# Altium integrated library SensorNode.IntLib: 42 symbols
Pins are listed as number, name and electrical type; pins without a type are passive.

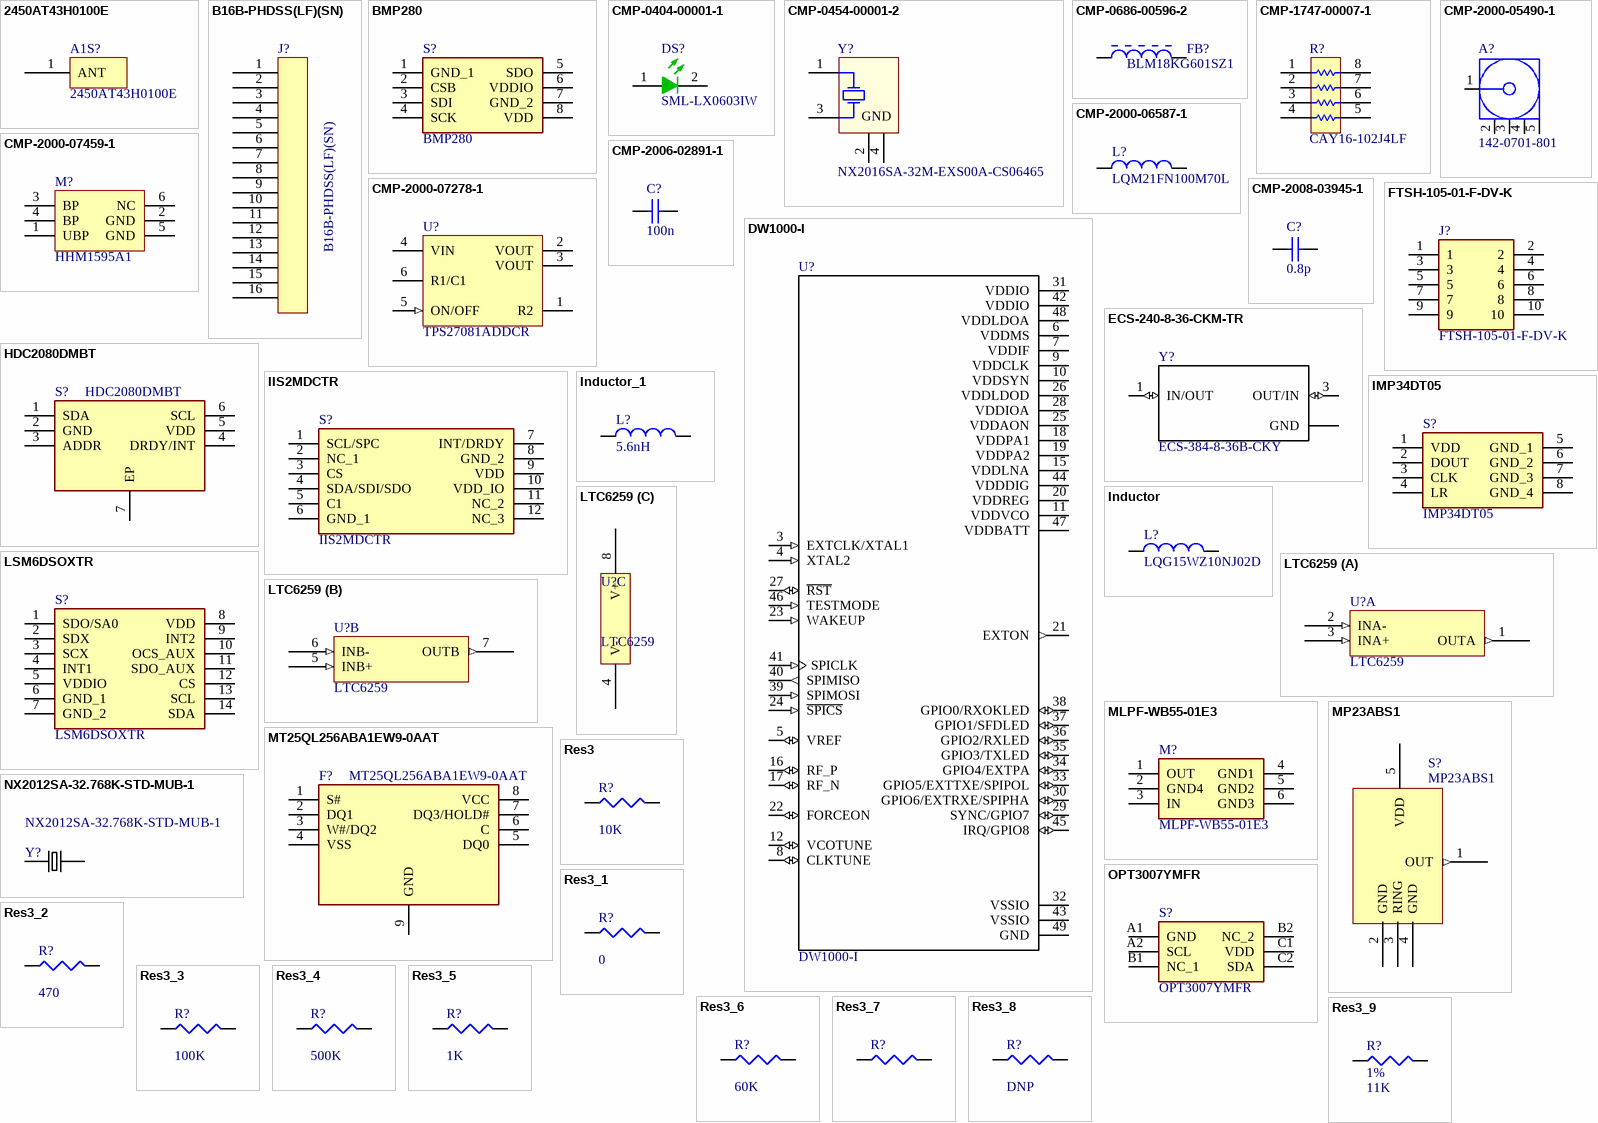
[diagram p0: symbols 2450AT43H0100E to Res3_9]

## 2450AT43H0100E
designator A1S?
footprint 2450AT43H0100E (Antennas 2400-2500 MHz)
pins: 1 ANT

## B16B-PHDSS(LF)(SN)
designator J?
footprint B16B-PHDSS(LF)(SN) - duplicate
pins: 1, 2, 3, 4, 5, 6, 7, 8, 9, 10, 11, 12, 13, 14, 15, 16

## BMP280
designator S?
Integrated Circuit; Manufacturer_Name: Bosch; Datasheet Link: https://ae-bst.resource.bosch.com/media/_tech/media/datasheets/BST-BMP280-DS001-19.pdf; Manufacturer_Part_Number: BMP280; Mouser Part Number: 262-BMP280
footprint 8-PIN-METAL-LID-LGA_1
pins: 1 GND_1, 2 CSB, 3 SDI, 4 SCK, 5 SDO, 6 VDDIO, 7 GND_2, 8 VDD

## CMP-0404-00001-1
designator DS?, comment SML-LX0603IW
LED, SMT, 0603(1608), 1.1mm thickness, Green; Manufacturer: Kingbright; PartNumber: KP-1608MGC; Reverse Voltage: 5 V; Power Dissipation: 75 mW; Forward Current: 30 mA; Packing Type: 2000 pcs / reel; Mounting Technology: Surface Mount; Storage Temperature: -40 to +85 degC; ComponentLink1URL: http://www.kingbright.com/; PackageDescription: 2-Pin SMT LED, 1.6 x 0.8 mm Pitch; PackageReference: 0603LED_GREEN; ComponentLink1Description: Manufacturer URL; Manufacturer 1: Kingbright; Manufacturer Part Number 1: KP-1608MGC
footprint KING-0603LED_GREEN_V (SMT LED, 2-Leads, Body 1.6x0.8mm (0603-Size))
pins: 1 A, 2 K

## CMP-0454-00001-2
designator Y?, comment NX2016SA-32M-EXS00A-CS06465
Crystal, 26 MHz, 8 pF, for OA / AV / Short-range Wireless, -10 to 75 degC, 2.0 x 1.6 x 0.45 mm SMD; PartNumber: NX2016SA-26MHZ-EXS00A-CS06025; Manufacturer: NDK; Level of drive: 10 uW (Max. 200 uW); Overtone Order: Fundamental; Load Capacitance: 8 pF; Nominal Frequency: 26 MHz; Operating Temperature: -10 to 75 degC; ComponentLink1Description: Manufacturer URL; ComponentLink3Description: Package Specification; ComponentLink3URL: http://www.ndk.com/images/products/catalog/c_NX2016SA-STD-CZS-1_e.pdf; PackageDescription: 4-Pin Hand Drawn, Body 2x1.6mm; Storage temperature range: -40 to 85 degC; ComponentLink1URL: https://www.ndk.com; Mounting Technology: Surface Mount; PackageReference: NX2016SA-26MHZ-EXS00A-CS06025-4; ComponentLink2Description: Datasheet; ComponentLink2URL: http://www.ndk.com/images/products/catalog/c_NX2016SA-STD-CZS-1_e.pdf; Manufacturer 1: NDK; Manufacturer Part Number 1: NX2016SA-26MHZ-EXS00A-CS06025
footprint NDK-NX2016SA-26MHZ-EXS00A-CS06025-4_V (Hand Drawn, 4-Leads, Body 2x1.6mm)
pins: 1 X1, 2 GND (power), 3 X2, 4 GND (power)

## CMP-0686-00596-2
designator FB?, comment BLM18KG601SZ1
Chip Ferrite Bead for Power Lines (Low DC Resistance Type), 220 Ohm, 2500 mA, -55 to 125 degC, 1.6 x 0.8 x 0.65 mm SMD, Tape and Reel; Manufacturer: Murata; PartNumber: BLM18SG221TN1D; Impedance (at 100 MHz): 220 Ohm +/- 25%; DC Resistance: 0.040 Ohm Max.; Rated Current: 2500 mA; ComponentLink2Description: Datasheet; ComponentLink1Description: Manufacturer URL; ComponentLink3Description: Package Specification; DatasheetVersion: 08/2013; Packing: Tape and Reel; PackageReference: BLM18_H650-2; PackageDescription: 2-Pin Chip, Body 1.6 x 0.8 mm; Mounting Technology: Surface Mount; Operating Temperature Range: -55 to 125 degC; ComponentLink1URL: http://www.murata.com/; ComponentLink2URL: http://www.murata.com/products/catalog/pdf/c31e.pdf; ComponentLink3URL: http://www.murata.com/products/catalog/pdf/c31e.pdf; Manufacturer 1: Murata; Manufacturer Part Number 1: BLM18SG221TN1D
footprint MURA-BLM18SG-B25-CHIP-2_V1 (Chip Ferrite Bead, 2-Leads, Body 1.6x0.8mm, Height 0.65mm, Flow, 18um Land Pad Thickness, 1.7 to 2.5A Rated Current)
footprint MURA-BLM18SG-B25-CHIP-2_V3 (Chip Ferrite Bead, 2-Leads, Body 1.6x0.8mm, Height 0.65mm, Reflow, 18um Land Pad Thickness, 1.7 to 2.5A Rated Current)
footprint MURA-BLM18SG-B25-CHIP-2_V4 (Chip Ferrite Bead, 2-Leads, Body 1.6x0.8mm, Height 0.65mm, Reflow, 35/70um Land Pad Thickness, 1.7 to 2.5A Rated Current)
footprint MURA-BLM18SG-B25-CHIP-2_V2 (Chip Ferrite Bead, 2-Leads, Body 1.6x0.8mm, Height 0.65mm, Flow, 35/70um Land Pad Thickness, 1.7 to 2.5A Rated Current)
pins: 1, 2

## CMP-1747-00007-1
designator R?, comment CAY16-102J4LF
Chip Resistor Array, 1 KOhm, +/- 5%, 62.5 mW, -55 to 125 degC, 8-Pin SMD, RoHS, Tape and Reel; Manufacturer 1: Bourns; Power Rating: 100 mW; Tolerance: 1%; Voltage Rating (DC): 50 V; Resistance: 330 Ohm; Case\Package: 0603; RoHSCompliant: true; Case Code (Metric): 1608; Pins: 2; PackageDescription: 8-Pin Surface Mount Device, Body 1.6 x 3.2 mm, Pitch 0.8 mm; Height: 0.45 mm; Min Operating Temperature: -55 degC; ComponentLink1URL: http://www.bourns.com/; Case Code (Imperial): 0603; Packaging: Tape and Reel; PackageReference: CAY16-J4; ComponentLink1Description: Manufacturer URL; ComponentLink2Description: Datasheet; Length: 1.6 mm; Width: 0.8 mm; Max Operating Temperature: 155 degC; Mount: Surface Mount; DatasheetVersion: Sep-14; Voltage Rating: 50 V; REACH SVHC: No SVHC; ComponentLink2URL: http://www.bourns.com/pdfs/CATCAY.pdf; Package Quantity: 5000; Manufacturer Part Number 1: CAY16-102J4LF
footprint BOUR-CAY16-J4_V (SMD, 8-Leads, Body 1.6x3.2mm, Pitch 0.8mm)
pins: 1, 2, 3, 4, 5, 6, 7, 8

## CMP-2000-05490-1
designator A?, comment 142-0701-801
SMA End Launch Jack Receptacle, 50 Ohm, 0 to 18 GHz, -65 to 165 degC, 5-Pin SMD, RoHS, Bulk; Manufacturer: EmersonConnectivitySolutions; Manufacturer 1: Emerson; Connector Type: JackPCB; Gender: Jack(Female); Impedance: 50Ohms; Brand: Johnson/EmersonConnectivitySolutions; Body Material: Brass; Body Style: Straight; Maximum Frequency: 18GHz; Factory Pack Quantity: 5; Datasheet URL: https://belfuse.com/resources/Johnson/productinformation/pi-142-0701-801.pdf; Datasheet Version: 12/2014; Operating Temperature Range: -65Cto+165C; Mounting Technology: SurfaceMount; RF Series: SMA; Package Reference: 142-0701-801; Product Category: RFConnectors/CoaxialConnectors; Termination Style: Solder; RoHS: Details; Package URL: https://belfuse.com/resources/Johnson/drawings/dr-1420701801.pdf; Series: SMA; Package Description: 5-Pin Surface Mount Device, Body 14.275 x 9.525 mm; Manufacturer URL: http://www.cinch.com/; Contact Plating: Gold; Product: Connectors; Orientation: Straight; Manufacturer Part Number 1: 142-0701-801
footprint CINC-142-0701-801_V (SMA Connector, 5-Leads, Body 14.275x9.525mm)
pins: 1, 2, 3, 4, 5

## CMP-2000-06587-1
designator L?, comment LQM21FN100M70L
Fixed Inductor, 10 uH, +/-20%, -55 to 125 degC, 2-Pin SMD (0805), RoHS, Tape and Reel; Manufacturer: Murata; Tolerance (%): 20%; DC Resistance: 0.6; Inductance-Nom: 10H; Rated Current-Max: 100mA; Package Reference: IND0805; Case Size/Dimension: 0805; Manufacturer URL: http://www.murata.com/; Package Description: 2-Pin Surface Mount Device, Body 2 x 1.25 mm; Datasheet URL: http://psearch.en.murata.com/inductor/product/LQM21FN100M70%23.pdf; Mounting Technology: SurfaceMount; Datasheet Version: 05/2016; Manufacturer 1: Murata; Manufacturer Part Number 1: LQM21FN100M70L
footprint MURA-IND0805_L (Chip Inductor, 2-Leads, Body 2.2x1.45mm, IPC High Density)
footprint MURA-IND0805_M (Chip Inductor, 2-Leads, Body 2.2x1.45mm, IPC Low Density)
footprint MURA-IND0805_N (Chip Inductor, 2-Leads, Body 2.2x1.45mm, IPC Medium Density)
pins: 1, 2

## CMP-2000-07278-1
designator U?, comment TPS27081ADDCR
PFET High-Side Load Switch with Level Shift and Adjustable Slew Rate Control, 1 to 8 V, 3 A, -40 to 85 degC, 6-Pin SOT (DDC), Green (RoHS & no Sb/Br), Tape and Reel; Manufacturer Product Page: TPS27081ADDCRSpecifications; Manufacturer: Texas Instruments; VIN Max: 8V; Power Dissipation Max: 1190mW; Interface: On/Off; Voltage - Load: 1.2V~8V; Rds On (Typ): 32mOhm; Voltage - Supply (Vcc/Vdd): NotRequired; EDA / CAD Models: DownloadfromAcceleratedDesigns; Ratio - Input: Output:1:1; Online Catalog: GeneralPurpose; VIN Min: 1V; Number of Outputs: 1; Output Configuration: HighSide; Package Version: 4204403-3/E, 06/2005; Current - Output (Max): 3A; Other Names: 296-34970-6; Manufacturer URL: http://www.ti.com/; Category: IntegratedCircuits(ICs); Standard Package: 1; Features: SlewRateControlled; Operating Temperature: -40°C~85°C(TA); Datasheet Version: Rev. E, 06/2015; PartNumber: TPS27081A; Package Reference: DDC6; Mounting Technology: SurfaceMount; Package URL: http://www.ti.com/litv/pdf/mpds124d; Package / Case: SOT-23-6Thin,TSOT-23-6; Family: PMIC-PowerDistributionSwitches,LoadDrivers; Supplier Device Package: 6-SOT; Datasheet URL: http://www.ti.com/lit/ds/symlink/tps27081a.pdf; Packaging: Digi-Reel®; Switch Type: GeneralPurpose; Package Description: 6-Pin Small Outline Transistor, Body 2.9 x 1.6 mm, Pitch 0.95 mm; Manufacturer 1: Texas Instruments; Manufacturer Part Number 1: TPS27081ADDCR
footprint DDC0006A_L (SOT23, 6-Leads, Body 3.05x1.75mm, Pitch 0.95mm, IPC High Density)
footprint DDC0006A_M (SOT23, 6-Leads, Body 3.05x1.75mm, Pitch 0.95mm, IPC Low Density)
footprint DDC0006A_N (SOT23, 6-Leads, Body 3.05x1.75mm, Pitch 0.95mm, IPC Medium Density)
pins: 1 R2 "Source Terminal of NMOS (Q2) - Connect to system GND directly or through a slew rate control resistor", 2 VOUT (power) "Drain Terminal of Power PFET (Q1) - Connect a slew control capacitor between pins VOUT and R1/C1", 3 VOUT (power) "Drain Terminal of Power PFET (Q1) - Connect a slew control capacitor between pins VOUT and R1/C1", 4 VIN (power) "Source Terminal of Power PFET (Q1) - connect a pull-up resistor between the pins VIN/R1 and R1/C1", 5 ON/OFF (in) "Active high enable pin - when driven with a high impedance driver connect an external pull down resistor to GND", 6 R1/C1 "Gate Terminal of Power PFET (Q1)"

## CMP-2000-07459-1
designator M?, comment HHM1595A1
Multilayer Balun, 3000 to 8000 MHz, -40 to 85 degC, 6-Pin SMD, RoHS, Tape and Reel; Manufacturer: TDK; Case\/Package: 0805; Impedance: 100Ohm; Insertion Loss: 1.5dB; Radiation Hardening: No; Number of Pins: 6; Manufacturer URL: http://www.tdk.com/; Min Operating Temperature: -40degC; Mounting Technology: SurfaceMount; RoHSCompliant: true; Package Description: 6-Pin Surface Mount Device, Body 2 x 1.25 mm, Pitch 0.65 mm; Datasheet URL: https://product.tdk.com/info/en/documents/data_sheet/rf_balun_hhm1595a1_en.pdf; Package Quantity: 1; Max Operating Temperature: 85degC; Packaging: TapeandReel; Package Reference: HHM1595A1; Termination: SMD/SMT; Datasheet Version: 04/2015; Case Code (Imperial): 0805; Case Code (Metric): 2012; Manufacturer 1: TDK; Manufacturer Part Number 1: HHM1595A1
footprint TDK-HHM1595A1_V (SMD, 6-Leads, Body 2x1.25mm, Pitch 0.65mm)
pins: 1 UBP "Unbalanced port", 2 GND (power), 3 BP "Balanced port", 4 BP "Balanced port", 5 GND (power), 6 NC "N.C."

## CMP-2006-02891-1
designator C?, comment 100n
Part Number: GRM188R71H102KA01D; Manufacturer: Murata; Manufacturer 1: Murata; Manufacturer Part Number 1: GRM188R71H102KA01D
footprint CAPC1608X90X35NL10T15 (Chip Capacitor, 2-Leads, Body 1.60x0.80mm, IPC Medium Density)
footprint CAPC1608X90X35ML10T15 (Chip Capacitor, 2-Leads, Body 1.60x0.80mm, IPC Low Density)
footprint CAPC1608X90X35LL10T15 (Chip Capacitor, 2-Leads, Body 1.60x0.80mm, IPC High Density)
pins: 1, 2
1 alternate drawing of the same symbol

## CMP-2008-03945-1
designator C?, comment 0.8p
Part Number: GRM1555C1H120GA01D; Manufacturer: Murata; Manufacturer 1: Murata; Manufacturer Part Number 1: GRM1555C1H120GA01D
footprint CAPC1005X55X25ML05T10 (Chip Capacitor, 2-Leads, Body 1.00x0.50mm, IPC Low Density)
footprint CAPC1005X55X25NL05T10 (Chip Capacitor, 2-Leads, Body 1.00x0.50mm, IPC Medium Density)
footprint CAPC1005X55X25LL05T10 (Chip Capacitor, 2-Leads, Body 1.00x0.50mm, IPC High Density)
pins: 1, 2
1 alternate drawing of the same symbol

## DW1000-I
designator U?
Ic Rf Txrx 802.15.4 48-Qfn; MF: Decawave Limited; Price: None; Package: QFN-48 Decawave; Availability: Unavailable; MP: DW1000-I; SnapEDA_Link: https://www.snapeda.com/parts/DW1000-I/Decawave%20Limited/view-part/?ref=snap; Value: *
footprint *QFN40P600X600X90-49N
pins: 3 EXTCLK/XTAL1 (in), 4 XTAL2 (in), 5 VREF (io), 6 VDDMS (power), 7 VDDIF (power), 8 CLKTUNE (io), 9 VDDCLK (power), 10 VDDSYN (power), 11 VDDVCO (power), 12 VCOTUNE (io), 15 VDDLNA (power), 16 RF_P (io), 17 RF_N (io), 18 VDDPA1 (power), 19 VDDPA2 (power), 20 VDDREG (power), 21 EXTON (out), 22 FORCEON (io), 23 WAKEUP (in), 24 ~{SPICS} (in), 25 VDDAON (power), 26 VDDLDOD (power), 27 ~{RST} (io), 28 VDDIOA (power), 29 SYNC/GPIO7 (io), 30 GPIO6/EXTRXE/SPIPHA (io), 31 VDDIO (power), 32 VSSIO (power), 33 GPIO5/EXTTXE/SPIPOL (io), 34 GPIO4/EXTPA (io), 35 GPIO3/TXLED (io), 36 GPIO2/RXLED (io), 37 GPIO1/SFDLED (io), 38 GPIO0/RXOKLED (io), 39 SPIMOSI (in), 40 SPIMISO (out), 41 SPICLK (in), 42 VDDIO (power), 43 VSSIO (power), 44 VDDDIG (power), 45 IRQ/GPIO8 (io), 46 TESTMODE (in), 47 VDDBATT (power), 48 VDDLDOA (power), 49 GND (power)

## ECS-240-8-36-CKM-TR
designator Y?, comment ECS-384-8-36B-CKY
The miniature ECX-2236 is a very compact SMD Crystal. The 2.5 x 2.0 x 0.55 mm ceramic package is ideal for today's SMD manufacturing environment.; MF: ECS Inc.; MP: ECS-240-8-36-CKM-TR; Price: None; SnapEDA_Link: https://www.snapeda.com/parts/ECS-240-8-36-CKM-TR/ECS%20Inc./view-part/?ref=snap; Package: SMD-4 ECS Inc.; Availability: Unavailable; Value: *
footprint *XTAL_ECS-240-8-36-CKM-TR
pins: 1 IN/OUT (io), 2 GND (power), 3 OUT/IN (io), 4 GND (power)

## FTSH-105-01-F-DV-K
designator J?
Connector; Manufacturer_Name: SAMTEC; Datasheet Link: http://suddendocs.samtec.com/prints/ftsh-1xx-xx-xxx-dv-xxx-xxx-mkt.pdf; Manufacturer_Part_Number: FTSH-105-01-F-DV-K; Mouser Part Number: 200-FTSH10501FDVK; Mouser Price/Stock: https://www.mouser.com/Search/Refine.aspx?Keyword=200-FTSH10501FDVK; RS Part Number: 1592372; RS Price/Stock: http://uk.rs-online.com/web/p/products/1592372
footprint SAMTEC_FTSH-105-01-L-DV (Footprint not found)
pins: 1, 2, 3, 4, 5, 6, 7, 8, 9, 10

## HDC2080DMBT
designator S?
Undefined or Miscellaneous; Manufacturer_Name: Texas Instruments; Datasheet Link: http://www.ti.com/lit/gpn/hdc2080; Height: 0.8mm; Manufacturer_Part_Number: HDC2080DMBT; Mouser Part Number: 595-HDC2080DMBT; Mouser Price/Stock: https://www.mouser.com/Search/Refine.aspx?Keyword=595-HDC2080DMBT; RS Part Number: 1797065P; RS Price/Stock: http://uk.rs-online.com/web/p/products/1797065P
footprint SON100P300X300X80-7N-D
pins: 1 SDA, 2 GND, 3 ADDR, 4 DRDY/INT, 5 VDD, 6 SCL, 7 EP

## IIS2MDCTR
designator S?
Integrated Circuit; Manufacturer_Name: STMicroelectronics; Datasheet Link: https://www.st.com/resource/en/datasheet/iis2mdc.pdf; Height: 0.7mm; Manufacturer_Part_Number: IIS2MDCTR; Mouser Part Number: 511-IIS2MDCTR; Mouser Price/Stock: https://www.mouser.com/Search/Refine.aspx?Keyword=511-IIS2MDCTR
footprint IIS2MDCTR
pins: 1 SCL/SPC, 2 NC_1, 3 CS, 4 SDA/SDI/SDO, 5 C1, 6 GND_1, 7 INT/DRDY, 8 GND_2, 9 VDD, 10 VDD_IO, 11 NC_2, 12 NC_3

## IMP34DT05
designator S?
Integrated Circuit; Manufacturer_Name: STMicroelectronics; Datasheet Link: https://www.st.com/resource/en/datasheet/imp34dt05.pdf; Height: 1.1mm; Manufacturer_Part_Number: IMP34DT05; Mouser Part Number: N/A; Mouser Price/Stock: https://www.mouser.com/Search/Refine.aspx?Keyword=N%2FA
footprint IMP34DT05
pins: 1 VDD, 2 DOUT, 3 CLK, 4 LR, 5 GND_1, 6 GND_2, 7 GND_3, 8 GND_4

## Inductor
designator L?, comment LQG15WZ10NJ02D
Inductor; Code_IEC: 1005; Published: 8-Jun-2000; LatestRevisionDate: 29-May-2009; LatestRevisionNote: IPC-7351 Footprint Added.; PackageReference: 0402-A; Publisher: Altium Limited; PackageDescription: Chip Inductor; Code_JEITA: 0402
footprint 0402-A (Chip Inductor, Body 1.0x0.5mm, IPC High Density)
footprint INDC1608L (Chip Inductor, Body 1.6x0.8mm, IPC High Density)
footprint 2029 (Chip Inductor, Body 2.0x1.2mm, IPC High Density)
footprint 0603 (Chip Inductor, Body 0.6x0.3mm, IPC High Density)
footprint INDC3216 (Chip Inductor, Body 3.2x1.6mm, IPC High Density)
footprint INDC4532 (Chip Inductor, Body 4.5x3.2mm, IPC High Density)
simulation model INDUCTOR (Inductor)
signal-integrity model Inductor
pins: 1, 2

## Inductor_1
designator L?, comment 5.6nH
Inductor; Code_IEC: 1005; Published: 8-Jun-2000; LatestRevisionDate: 29-May-2009; LatestRevisionNote: IPC-7351 Footprint Added.; PackageReference: 0402-A; Publisher: Altium Limited; PackageDescription: Chip Inductor; Code_JEITA: 0402
footprint 0402-A (Chip Inductor, Body 1.0x0.5mm, IPC High Density)
footprint INDC1608L (Chip Inductor, Body 1.6x0.8mm, IPC High Density)
footprint 2029 (Chip Inductor, Body 2.0x1.2mm, IPC High Density)
footprint 0603 (Chip Inductor, Body 0.6x0.3mm, IPC High Density)
footprint INDC3216 (Chip Inductor, Body 3.2x1.6mm, IPC High Density)
footprint INDC4532 (Chip Inductor, Body 4.5x3.2mm, IPC High Density)
simulation model INDUCTOR (Inductor)
signal-integrity model Inductor
pins: 1, 2

## LSM6DSOXTR
designator S?
Accelerometer; Manufacturer_Name: STMicroelectronics; Datasheet Link: https://www.st.com/resource/en/datasheet/lsm6dsox.pdf; Manufacturer_Part_Number: LSM6DSOXTR; Mouser Part Number: 511-LSM6DSOXTR; Mouser Price/Stock: https://www.mouser.com/Search/Refine.aspx?Keyword=511-LSM6DSOXTR
footprint LGA-14_1
pins: 1 SDO/SA0, 2 SDX, 3 SCX, 4 INT1, 5 VDDIO, 6 GND_1, 7 GND_2, 8 VDD, 9 INT2, 10 OCS_AUX, 11 SDO_AUX, 12 CS, 13 SCL, 14 SDA

## LTC6259
designator U?
footprint SOT23-8
part A pins: 1 OUTA (out), 2 INA- (in), 3 INA+ (in)
part B pins: 5 INB+ (in), 6 INB- (in), 7 OUTB (out)
part C pins: 4 V- (power), 8 V+ (power)

## MLPF-WB55-01E3
designator M?
Filter; Manufacturer_Name: STMicroelectronics; Datasheet Link: https://componentsearchengine.com/Datasheets/1/MLPF-WB55-01E3.pdf; Height: 0.7mm; Mouser Part Number: 511-MLPF-WB55-01E3; Mouser Price/Stock: https://www.mouser.com/Search/Refine.aspx?Keyword=511-MLPF-WB55-01E3; Manufacturer_Part_Number: MLPF-WB55-01E3
footprint MLPFWB5501E3
pins: 1 OUT, 2 GND4, 3 IN, 4 GND1, 5 GND2, 6 GND3

## MP23ABS1
designator S?
footprint MP23ABS1
pins: 1 OUT (out), 2 GND (power), 3 RING (power), 4 GND (power), 5 VDD (power)

## MT25QL256ABA1EW9-0AAT
designator F?
Integrated Circuit; Manufacturer_Name: Micron; Datasheet Link: https://www.micron.com/~/media/documents/products/data-sheet/nor-flash/serial-nor/mt25q/die-rev-a/mt25q_qljs_l_256_aba_0.pdf; Height: 0.8mm; Manufacturer_Part_Number: MT25QL256ABA1EW9-0AAT; Mouser Part Number: 340-322381-TRAY; Mouser Price/Stock: https://www.mouser.com/Search/Refine.aspx?Keyword=340-322381-TRAY
footprint SON127P800X600X80-9N-D
pins: 1 S#, 2 DQ1, 3 W#/DQ2, 4 VSS, 5 DQ0, 6 C, 7 DQ3/HOLD#, 8 VCC, 9 GND

## NX2012SA-32.768K-STD-MUB-1
designator Y?
Crystal 32.7680khz 12.5pf Smd; MF: NDK America,; MP: NX2012SA-32.768K-STD-MUB-1; Price: None; Package: SMD-2 NDK; Availability: Unavailable; SnapEDA_Link: https://www.snapeda.com/parts/NX2012SA-32.768K-STD-MUB-1/NDK%20America%2C%20Inc./view-part/?ref=snap; Value: *
footprint *XTAL_NX2012SA-32.768K-STD-MUB-1
pins: 1, 2

## OPT3007YMFR
designator S?
Integrated Circuit; Manufacturer_Name: Texas Instruments; Datasheet Link: http://www.ti.com/lit/gpn/opt3007; Height: 0.226mm; Manufacturer_Part_Number: OPT3007YMFR; Mouser Part Number: 595-OPT3007YMFR; Mouser Price/Stock: https://www.mouser.com/Search/Refine.aspx?Keyword=595-OPT3007YMFR
footprint BGA6C35P2X3_86X95X23
pins: A1 GND, A2 SCL, B1 NC_1, B2 NC_2, C1 VDD, C2 SDA

## Res3
designator R?  value 10K
Resistor; Published: 8-Jun-2000; LatestRevisionDate: 29-May-2009; LatestRevisionNote: IPC-7351 Footprint Added.; PackageReference: J1-0603; Publisher: Altium Limited; PackageDescription: Chip Resistor
footprint J1-0603 (Chip Resistor, Body 1.6x0.8mm, IPC High Density)
footprint 14-1210 (Chip Resistor, Body 3.2x2.5mm, IPC High Density)
footprint 12Z-2010 (Chip Resistor, Body 5.0x2.5mm, IPC High Density)
footprint RESC6332 (Chip Resistor, Body 6.3x3.2mm, IPC High Density)
simulation model RESISTOR (Resistor)
signal-integrity model Res
pins: 1, 2

## Res3_1
designator R?  value 0
Resistor; Published: 8-Jun-2000; LatestRevisionDate: 29-May-2009; LatestRevisionNote: IPC-7351 Footprint Added.; PackageReference: J1-0603; Publisher: Altium Limited; PackageDescription: Chip Resistor
footprint J1-0603 (Chip Resistor, Body 1.6x0.8mm, IPC High Density)
footprint 14-1210 (Chip Resistor, Body 3.2x2.5mm, IPC High Density)
footprint 12Z-2010 (Chip Resistor, Body 5.0x2.5mm, IPC High Density)
footprint RESC6332 (Chip Resistor, Body 6.3x3.2mm, IPC High Density)
simulation model RESISTOR (Resistor)
signal-integrity model Res
pins: 1, 2

## Res3_2
designator R?  value 470
Resistor; Published: 8-Jun-2000; LatestRevisionDate: 29-May-2009; LatestRevisionNote: IPC-7351 Footprint Added.; PackageReference: J1-0603; Publisher: Altium Limited; PackageDescription: Chip Resistor
footprint J1-0603 (Chip Resistor, Body 1.6x0.8mm, IPC High Density)
footprint 14-1210 (Chip Resistor, Body 3.2x2.5mm, IPC High Density)
footprint 12Z-2010 (Chip Resistor, Body 5.0x2.5mm, IPC High Density)
footprint RESC6332 (Chip Resistor, Body 6.3x3.2mm, IPC High Density)
simulation model RESISTOR (Resistor)
signal-integrity model Res
pins: 1, 2

## Res3_3
designator R?  value 100K
Resistor; Published: 8-Jun-2000; LatestRevisionDate: 29-May-2009; LatestRevisionNote: IPC-7351 Footprint Added.; PackageReference: J1-0603; Publisher: Altium Limited; PackageDescription: Chip Resistor
footprint J1-0603 (Chip Resistor, Body 1.6x0.8mm, IPC High Density)
footprint 14-1210 (Chip Resistor, Body 3.2x2.5mm, IPC High Density)
footprint 12Z-2010 (Chip Resistor, Body 5.0x2.5mm, IPC High Density)
footprint RESC6332 (Chip Resistor, Body 6.3x3.2mm, IPC High Density)
simulation model RESISTOR (Resistor)
signal-integrity model Res
pins: 1, 2

## Res3_4
designator R?  value 500K
Resistor; Published: 8-Jun-2000; LatestRevisionDate: 29-May-2009; LatestRevisionNote: IPC-7351 Footprint Added.; PackageReference: J1-0603; Publisher: Altium Limited; PackageDescription: Chip Resistor
footprint J1-0603 (Chip Resistor, Body 1.6x0.8mm, IPC High Density)
footprint 14-1210 (Chip Resistor, Body 3.2x2.5mm, IPC High Density)
footprint 12Z-2010 (Chip Resistor, Body 5.0x2.5mm, IPC High Density)
footprint RESC6332 (Chip Resistor, Body 6.3x3.2mm, IPC High Density)
simulation model RESISTOR (Resistor)
signal-integrity model Res
pins: 1, 2

## Res3_5
designator R?  value 1K
Resistor; Published: 8-Jun-2000; LatestRevisionDate: 29-May-2009; LatestRevisionNote: IPC-7351 Footprint Added.; PackageReference: J1-0603; Publisher: Altium Limited; PackageDescription: Chip Resistor
footprint J1-0603 (Chip Resistor, Body 1.6x0.8mm, IPC High Density)
footprint 14-1210 (Chip Resistor, Body 3.2x2.5mm, IPC High Density)
footprint 12Z-2010 (Chip Resistor, Body 5.0x2.5mm, IPC High Density)
footprint RESC6332 (Chip Resistor, Body 6.3x3.2mm, IPC High Density)
simulation model RESISTOR (Resistor)
signal-integrity model Res
pins: 1, 2

## Res3_6
designator R?  value 60K
Resistor; Published: 8-Jun-2000; LatestRevisionDate: 29-May-2009; LatestRevisionNote: IPC-7351 Footprint Added.; PackageReference: J1-0603; Publisher: Altium Limited; PackageDescription: Chip Resistor
footprint J1-0603 (Chip Resistor, Body 1.6x0.8mm, IPC High Density)
footprint 14-1210 (Chip Resistor, Body 3.2x2.5mm, IPC High Density)
footprint 12Z-2010 (Chip Resistor, Body 5.0x2.5mm, IPC High Density)
footprint RESC6332 (Chip Resistor, Body 6.3x3.2mm, IPC High Density)
simulation model RESISTOR (Resistor)
signal-integrity model Res
pins: 1, 2

## Res3_7
designator R?
Resistor; Published: 8-Jun-2000; LatestRevisionDate: 29-May-2009; LatestRevisionNote: IPC-7351 Footprint Added.; PackageReference: J1-0603; Publisher: Altium Limited; PackageDescription: Chip Resistor
footprint J1-0603 (Chip Resistor, Body 1.6x0.8mm, IPC High Density)
footprint 14-1210 (Chip Resistor, Body 3.2x2.5mm, IPC High Density)
footprint 12Z-2010 (Chip Resistor, Body 5.0x2.5mm, IPC High Density)
footprint RESC6332 (Chip Resistor, Body 6.3x3.2mm, IPC High Density)
simulation model RESISTOR (Resistor)
signal-integrity model Res
pins: 1, 2

## Res3_8
designator R?  value DNP
Resistor; Published: 8-Jun-2000; LatestRevisionDate: 29-May-2009; LatestRevisionNote: IPC-7351 Footprint Added.; PackageReference: J1-0603; Publisher: Altium Limited; PackageDescription: Chip Resistor
footprint J1-0603 (Chip Resistor, Body 1.6x0.8mm, IPC High Density)
footprint 14-1210 (Chip Resistor, Body 3.2x2.5mm, IPC High Density)
footprint 12Z-2010 (Chip Resistor, Body 5.0x2.5mm, IPC High Density)
footprint RESC6332 (Chip Resistor, Body 6.3x3.2mm, IPC High Density)
simulation model RESISTOR (Resistor)
signal-integrity model Res
pins: 1, 2

## Res3_9
designator R?, comment 1%  value 11K
Resistor; Published: 8-Jun-2000; LatestRevisionDate: 29-May-2009; LatestRevisionNote: IPC-7351 Footprint Added.; PackageReference: J1-0603; Publisher: Altium Limited; PackageDescription: Chip Resistor
footprint J1-0603 (Chip Resistor, Body 1.6x0.8mm, IPC High Density)
footprint 14-1210 (Chip Resistor, Body 3.2x2.5mm, IPC High Density)
footprint 12Z-2010 (Chip Resistor, Body 5.0x2.5mm, IPC High Density)
footprint RESC6332 (Chip Resistor, Body 6.3x3.2mm, IPC High Density)
simulation model RESISTOR (Resistor)
signal-integrity model Res
pins: 1, 2

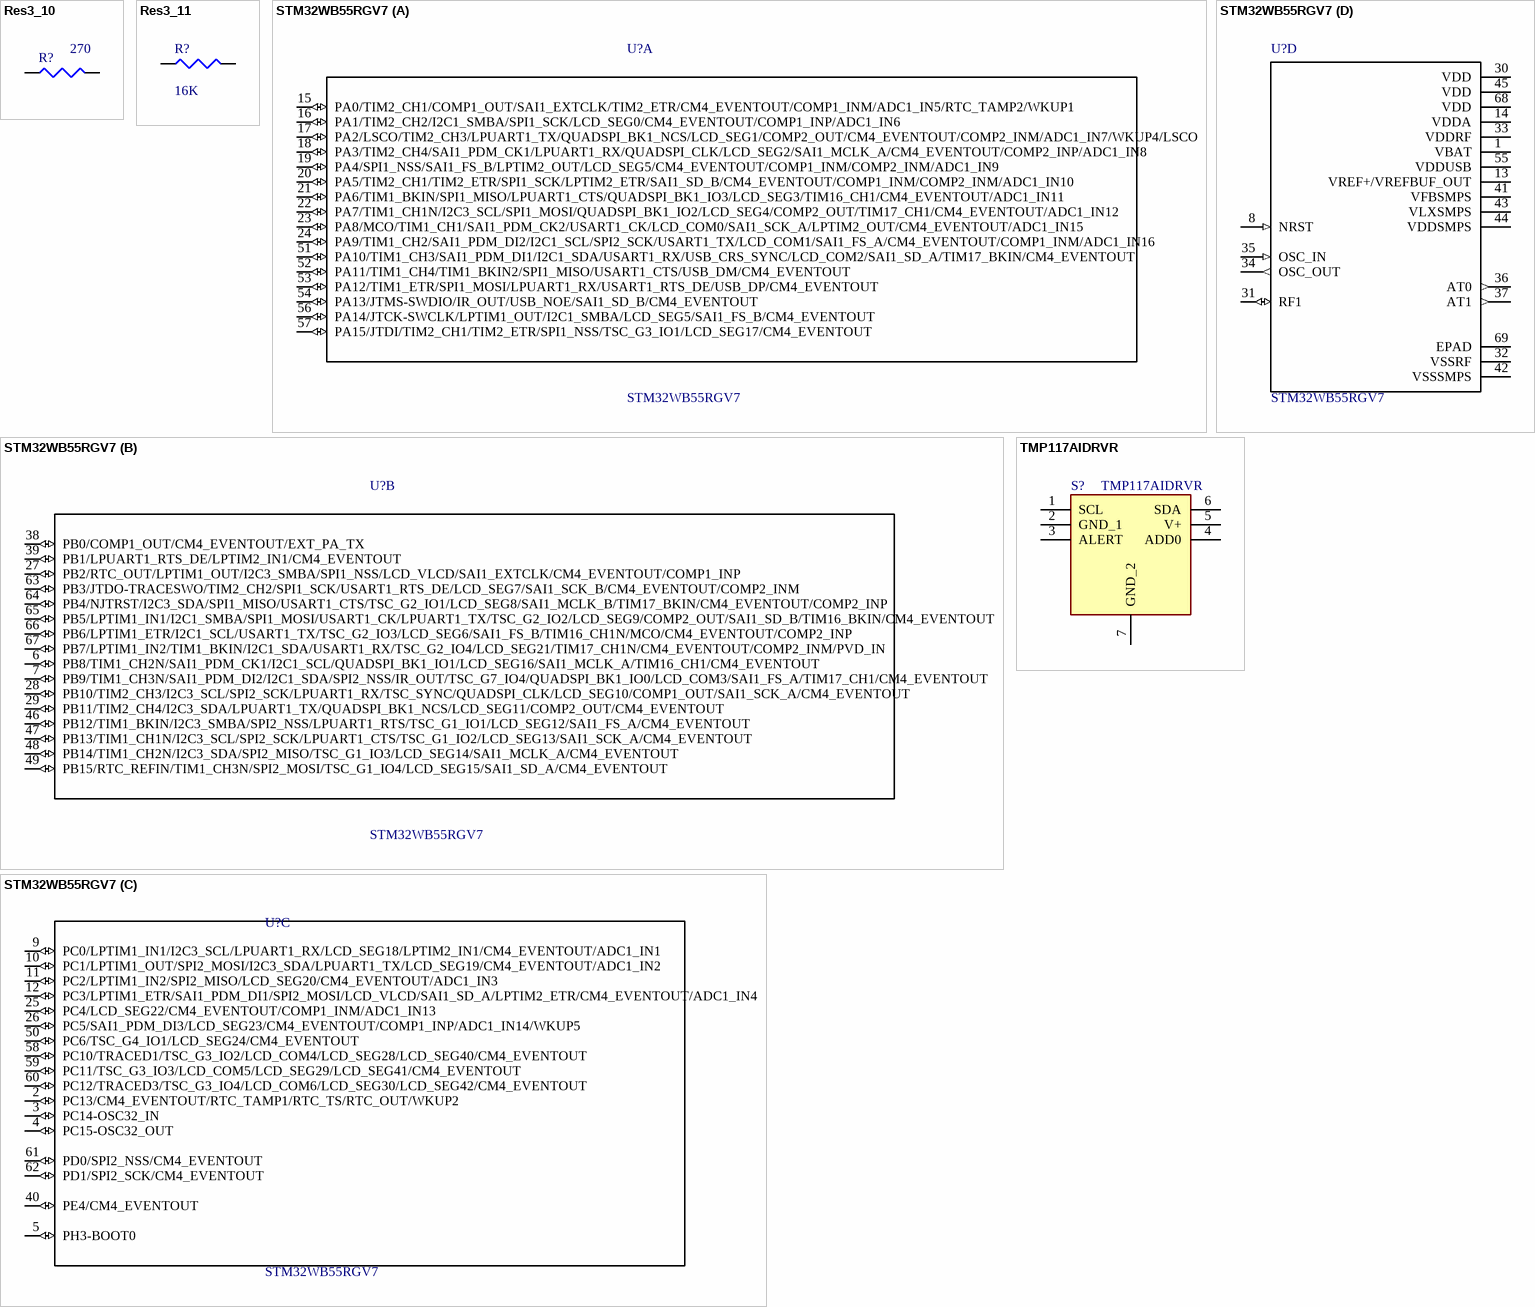
[diagram p1: symbols Res3_10 to TMP117AIDRVR]

## Res3_10
designator R?  value 270
Resistor; Published: 8-Jun-2000; LatestRevisionDate: 29-May-2009; LatestRevisionNote: IPC-7351 Footprint Added.; PackageReference: J1-0603; Publisher: Altium Limited; PackageDescription: Chip Resistor
footprint J1-0603 (Chip Resistor, Body 1.6x0.8mm, IPC High Density)
footprint 14-1210 (Chip Resistor, Body 3.2x2.5mm, IPC High Density)
footprint 12Z-2010 (Chip Resistor, Body 5.0x2.5mm, IPC High Density)
footprint RESC6332 (Chip Resistor, Body 6.3x3.2mm, IPC High Density)
simulation model RESISTOR (Resistor)
signal-integrity model Res
pins: 1, 2

## Res3_11
designator R?  value 16K
Resistor; Published: 8-Jun-2000; LatestRevisionDate: 29-May-2009; LatestRevisionNote: IPC-7351 Footprint Added.; PackageReference: J1-0603; Publisher: Altium Limited; PackageDescription: Chip Resistor
footprint J1-0603 (Chip Resistor, Body 1.6x0.8mm, IPC High Density)
footprint 14-1210 (Chip Resistor, Body 3.2x2.5mm, IPC High Density)
footprint 12Z-2010 (Chip Resistor, Body 5.0x2.5mm, IPC High Density)
footprint RESC6332 (Chip Resistor, Body 6.3x3.2mm, IPC High Density)
simulation model RESISTOR (Resistor)
signal-integrity model Res
pins: 1, 2

## STM32WB55RGV7
designator U?
Multiprotocol wireless 32-bit MCU Arm-based Cortex-M4; MF: STMicroelectronics; MP: STM32WB55RGV7; Price: None; Package: None; Availability: Unavailable; SnapEDA_Link: https://www.snapeda.com/parts/STM32WB55RGV7/STMicroelectronics/view-part/?ref=snap; Value: *
footprint *QFN40P800X800X100-69N
part A pins: 15 PA0/TIM2_CH1/COMP1_OUT/SAI1_EXTCLK/TIM2_ETR/CM4_EVENTOUT/COMP1_INM/ADC1_IN5/RTC_TAMP2/WKUP1 (io), 16 PA1/TIM2_CH2/I2C1_SMBA/SPI1_SCK/LCD_SEG0/CM4_EVENTOUT/COMP1_INP/ADC1_IN6 (io), 17 PA2/LSCO/TIM2_CH3/LPUART1_TX/QUADSPI_BK1_NCS/LCD_SEG1/COMP2_OUT/CM4_EVENTOUT/COMP2_INM/ADC1_IN7/WKUP4/LSCO (io), 18 PA3/TIM2_CH4/SAI1_PDM_CK1/LPUART1_RX/QUADSPI_CLK/LCD_SEG2/SAI1_MCLK_A/CM4_EVENTOUT/COMP2_INP/ADC1_IN8 (io), 19 PA4/SPI1_NSS/SAI1_FS_B/LPTIM2_OUT/LCD_SEG5/CM4_EVENTOUT/COMP1_INM/COMP2_INM/ADC1_IN9 (io), 20 PA5/TIM2_CH1/TIM2_ETR/SPI1_SCK/LPTIM2_ETR/SAI1_SD_B/CM4_EVENTOUT/COMP1_INM/COMP2_INM/ADC1_IN10 (io), 21 PA6/TIM1_BKIN/SPI1_MISO/LPUART1_CTS/QUADSPI_BK1_IO3/LCD_SEG3/TIM16_CH1/CM4_EVENTOUT/ADC1_IN11 (io), 22 PA7/TIM1_CH1N/I2C3_SCL/SPI1_MOSI/QUADSPI_BK1_IO2/LCD_SEG4/COMP2_OUT/TIM17_CH1/CM4_EVENTOUT/ADC1_IN12 (io), 23 PA8/MCO/TIM1_CH1/SAI1_PDM_CK2/USART1_CK/LCD_COM0/SAI1_SCK_A/LPTIM2_OUT/CM4_EVENTOUT/ADC1_IN15 (io), 24 PA9/TIM1_CH2/SAI1_PDM_DI2/I2C1_SCL/SPI2_SCK/USART1_TX/LCD_COM1/SAI1_FS_A/CM4_EVENTOUT/COMP1_INM/ADC1_IN16 (io), 51 PA10/TIM1_CH3/SAI1_PDM_DI1/I2C1_SDA/USART1_RX/USB_CRS_SYNC/LCD_COM2/SAI1_SD_A/TIM17_BKIN/CM4_EVENTOUT (io), 52 PA11/TIM1_CH4/TIM1_BKIN2/SPI1_MISO/USART1_CTS/USB_DM/CM4_EVENTOUT (io), 53 PA12/TIM1_ETR/SPI1_MOSI/LPUART1_RX/USART1_RTS_DE/USB_DP/CM4_EVENTOUT (io), 54 PA13/JTMS-SWDIO/IR_OUT/USB_NOE/SAI1_SD_B/CM4_EVENTOUT (io), 56 PA14/JTCK-SWCLK/LPTIM1_OUT/I2C1_SMBA/LCD_SEG5/SAI1_FS_B/CM4_EVENTOUT (io), 57 PA15/JTDI/TIM2_CH1/TIM2_ETR/SPI1_NSS/TSC_G3_IO1/LCD_SEG17/CM4_EVENTOUT (io)
part B pins: 6 PB8/TIM1_CH2N/SAI1_PDM_CK1/I2C1_SCL/QUADSPI_BK1_IO1/LCD_SEG16/SAI1_MCLK_A/TIM16_CH1/CM4_EVENTOUT (io), 7 PB9/TIM1_CH3N/SAI1_PDM_DI2/I2C1_SDA/SPI2_NSS/IR_OUT/TSC_G7_IO4/QUADSPI_BK1_IO0/LCD_COM3/SAI1_FS_A/TIM17_CH1/CM4_EVENTOUT (io), 27 PB2/RTC_OUT/LPTIM1_OUT/I2C3_SMBA/SPI1_NSS/LCD_VLCD/SAI1_EXTCLK/CM4_EVENTOUT/COMP1_INP (io), 28 PB10/TIM2_CH3/I2C3_SCL/SPI2_SCK/LPUART1_RX/TSC_SYNC/QUADSPI_CLK/LCD_SEG10/COMP1_OUT/SAI1_SCK_A/CM4_EVENTOUT (io), 29 PB11/TIM2_CH4/I2C3_SDA/LPUART1_TX/QUADSPI_BK1_NCS/LCD_SEG11/COMP2_OUT/CM4_EVENTOUT (io), 38 PB0/COMP1_OUT/CM4_EVENTOUT/EXT_PA_TX (io), 39 PB1/LPUART1_RTS_DE/LPTIM2_IN1/CM4_EVENTOUT (io), 46 PB12/TIM1_BKIN/I2C3_SMBA/SPI2_NSS/LPUART1_RTS/TSC_G1_IO1/LCD_SEG12/SAI1_FS_A/CM4_EVENTOUT (io), 47 PB13/TIM1_CH1N/I2C3_SCL/SPI2_SCK/LPUART1_CTS/TSC_G1_IO2/LCD_SEG13/SAI1_SCK_A/CM4_EVENTOUT (io), 48 PB14/TIM1_CH2N/I2C3_SDA/SPI2_MISO/TSC_G1_IO3/LCD_SEG14/SAI1_MCLK_A/CM4_EVENTOUT (io), 49 PB15/RTC_REFIN/TIM1_CH3N/SPI2_MOSI/TSC_G1_IO4/LCD_SEG15/SAI1_SD_A/CM4_EVENTOUT (io), 63 PB3/JTDO-TRACESWO/TIM2_CH2/SPI1_SCK/USART1_RTS_DE/LCD_SEG7/SAI1_SCK_B/CM4_EVENTOUT/COMP2_INM (io), 64 PB4/NJTRST/I2C3_SDA/SPI1_MISO/USART1_CTS/TSC_G2_IO1/LCD_SEG8/SAI1_MCLK_B/TIM17_BKIN/CM4_EVENTOUT/COMP2_INP (io), 65 PB5/LPTIM1_IN1/I2C1_SMBA/SPI1_MOSI/USART1_CK/LPUART1_TX/TSC_G2_IO2/LCD_SEG9/COMP2_OUT/SAI1_SD_B/TIM16_BKIN/CM4_EVENTOUT (io), 66 PB6/LPTIM1_ETR/I2C1_SCL/USART1_TX/TSC_G2_IO3/LCD_SEG6/SAI1_FS_B/TIM16_CH1N/MCO/CM4_EVENTOUT/COMP2_INP (io), 67 PB7/LPTIM1_IN2/TIM1_BKIN/I2C1_SDA/USART1_RX/TSC_G2_IO4/LCD_SEG21/TIM17_CH1N/CM4_EVENTOUT/COMP2_INM/PVD_IN (io)
part C pins: 2 PC13/CM4_EVENTOUT/RTC_TAMP1/RTC_TS/RTC_OUT/WKUP2 (io), 3 PC14-OSC32_IN (io), 4 PC15-OSC32_OUT (io), 5 PH3-BOOT0 (io), 9 PC0/LPTIM1_IN1/I2C3_SCL/LPUART1_RX/LCD_SEG18/LPTIM2_IN1/CM4_EVENTOUT/ADC1_IN1 (io), 10 PC1/LPTIM1_OUT/SPI2_MOSI/I2C3_SDA/LPUART1_TX/LCD_SEG19/CM4_EVENTOUT/ADC1_IN2 (io), 11 PC2/LPTIM1_IN2/SPI2_MISO/LCD_SEG20/CM4_EVENTOUT/ADC1_IN3 (io), 12 PC3/LPTIM1_ETR/SAI1_PDM_DI1/SPI2_MOSI/LCD_VLCD/SAI1_SD_A/LPTIM2_ETR/CM4_EVENTOUT/ADC1_IN4 (io), 25 PC4/LCD_SEG22/CM4_EVENTOUT/COMP1_INM/ADC1_IN13 (io), 26 PC5/SAI1_PDM_DI3/LCD_SEG23/CM4_EVENTOUT/COMP1_INP/ADC1_IN14/WKUP5 (io), 40 PE4/CM4_EVENTOUT (io), 50 PC6/TSC_G4_IO1/LCD_SEG24/CM4_EVENTOUT (io), 58 PC10/TRACED1/TSC_G3_IO2/LCD_COM4/LCD_SEG28/LCD_SEG40/CM4_EVENTOUT (io), 59 PC11/TSC_G3_IO3/LCD_COM5/LCD_SEG29/LCD_SEG41/CM4_EVENTOUT (io), 60 PC12/TRACED3/TSC_G3_IO4/LCD_COM6/LCD_SEG30/LCD_SEG42/CM4_EVENTOUT (io), 61 PD0/SPI2_NSS/CM4_EVENTOUT (io), 62 PD1/SPI2_SCK/CM4_EVENTOUT (io)
part D pins: 1 VBAT (power), 8 NRST (in), 13 VREF+/VREFBUF_OUT (power), 14 VDDA (power), 30 VDD (power), 31 RF1 (io), 32 VSSRF (power), 33 VDDRF (power), 34 OSC_OUT (out), 35 OSC_IN (in), 36 AT0 (out), 37 AT1 (out), 41 VFBSMPS (power), 42 VSSSMPS (power), 43 VLXSMPS (power), 44 VDDSMPS (power), 45 VDD (power), 55 VDDUSB (power), 68 VDD (power), 69 EPAD (power)

## TMP117AIDRVR
designator S?
Integrated Circuit; Manufacturer_Name: Texas Instruments; Datasheet Link: http://www.ti.com/lit/gpn/tmp117; Height: 0.8mm; Manufacturer_Part_Number: TMP117AIDRVR; Mouser Part Number: 595-TMP117AIDRVR; Mouser Price/Stock: https://www.mouser.com/Search/Refine.aspx?Keyword=595-TMP117AIDRVR
footprint SON65P200X200X80-7N
pins: 1 SCL, 2 GND_1, 3 ALERT, 4 ADD0, 5 V+, 6 SDA, 7 GND_2